# Altium schematic symbol library MultiChannelLdc.SchLib: 6 symbols
Pins are listed as number, name and electrical type; pins without a type are passive.

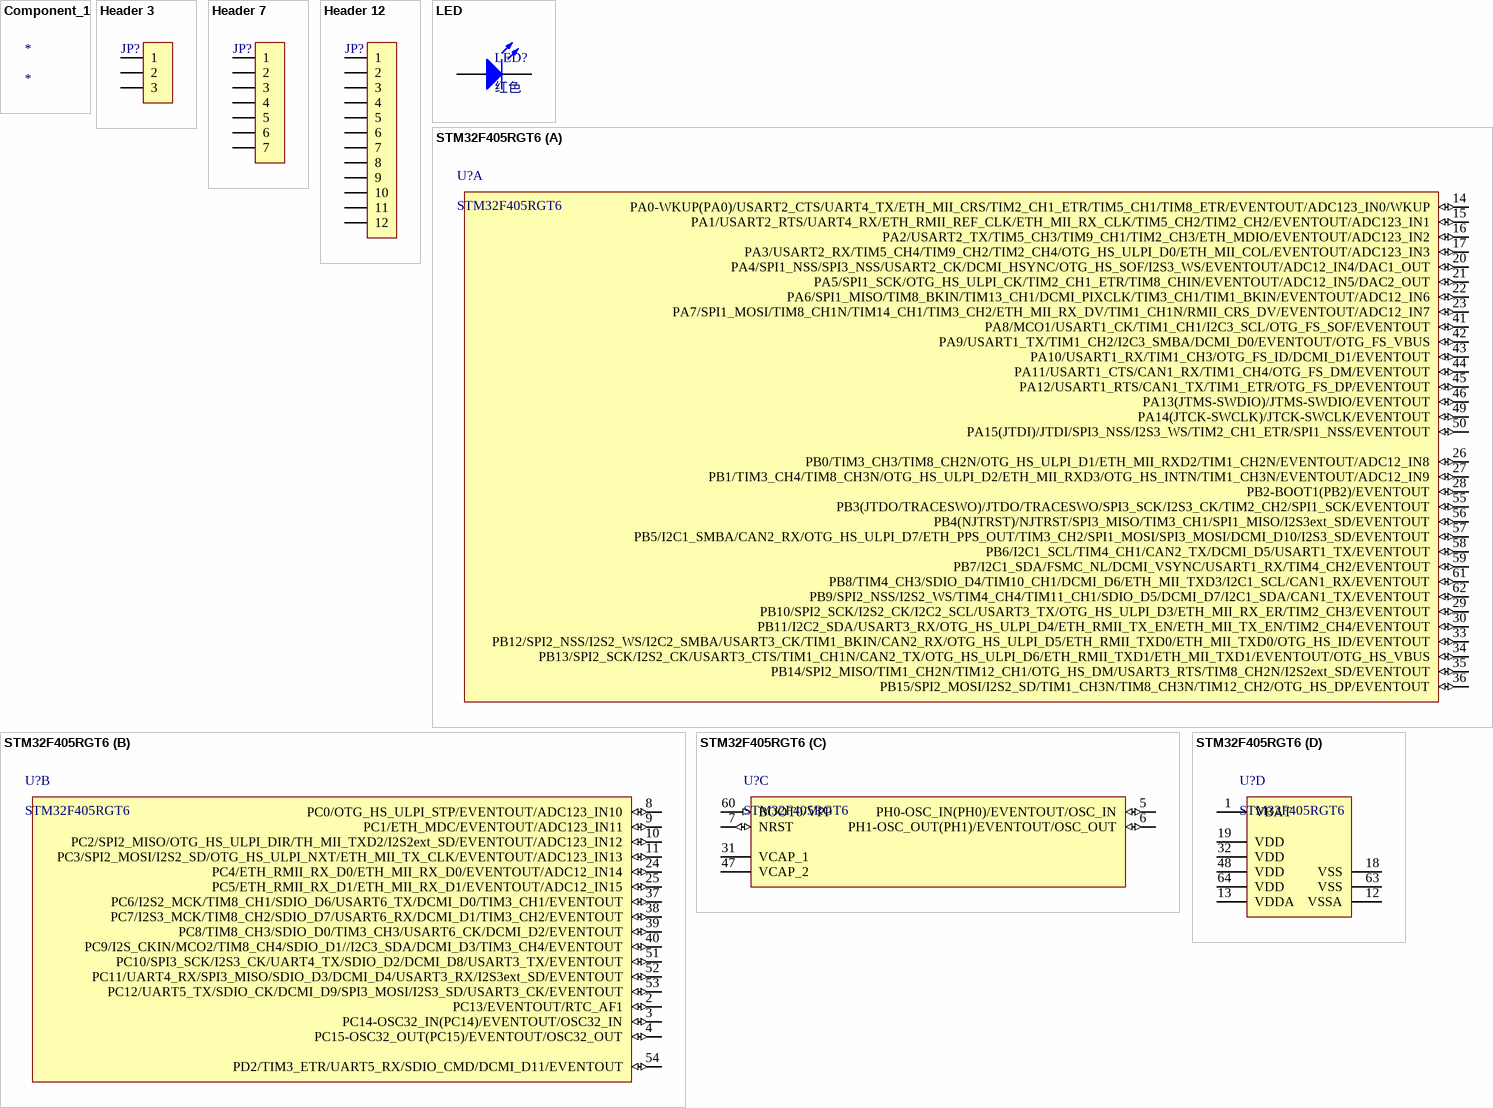
[diagram p0: symbols Component_1 to STM32F405RGT6]

## Component_1
designator *

## Header 3
designator JP?, comment HDR-1X3  (value not drawn)
3P接插件; 联系卖家，免费查找封装: 唯一出售店铺网址https://shop463601444.taobao.com; 封装库来自淘宝卖家ID：黄晶宝石: 其他店铺购入均为盗版封装库，请立即申请退款，本店现金奖励50~200元; BOM名称: 3P接插件
footprint XH2.54-W-3P (接插件，3P)
footprint XH2.54-LI-3P (接插件，3P)
footprint HDR2.54-LI-3P (排针，3脚)
footprint HDR2.54-M-LI-3P (排母，3脚)
footprint HDR2.54-WI-3P (弯脚排针，3脚)
footprint HDR2.54-WS-3P (3P卧式贴片排针2.54)
footprint HDR2.54-Y-LI-3P (圆孔排母，3脚)
footprint HDR2.54-M-WT-3P (3P卧式贴片排母2.54)
footprint KF2510-LI-3P (接插件/2A)
footprint XH2.54-WT-3P (长：12.5mm，宽：8mm，高：6.1mm)
footprint XH2.54-LS-3P (长：12.5mm，宽：6mm，高：8.3mm)
footprint KF2EDGK-2.54-LI-3P (长：9.52mm，宽：8.1mm，高：10.1mm)
footprint KF2EDGK-2.54-WI-3P (长：9.52mm，宽：10.1mm，高：8.1mm)
pins: 1, 2, 3

## Header 7
designator JP?, comment HDR-1X7  (value not drawn)
7P接插件; 联系卖家，免费查找封装: 唯一出售店铺网址https://shop463601444.taobao.com; 封装库来自淘宝卖家ID：黄晶宝石: 其他店铺购入均为盗版封装库，请立即申请退款，本店现金奖励50~200元; BOM名称: 7P接插件
footprint XH2.54-W-7P (接插件，7P)
footprint XH2.54-LI-7P (接插件，7P)
footprint HDR2.54-LI-7P (排针，8脚)
footprint HDR2.54-M-LI-7P (排母，7脚)
footprint HDR2.54-WI-7P (弯脚排针，7脚)
footprint HDR2.54-WS-7P (7P卧式贴片排针2.54)
footprint HDR2.54-Y-LI-7P (圆孔排母，7脚)
footprint HDR2.54-M-WT-7P (7P卧式贴片排母2.54)
footprint KF2510-LI-7P (接插件/2A)
footprint XH2.54-WT-7P (长：22.5mm，宽：8mm，高：6.1mm)
footprint XH2.54-LS-7P (长：22.5mm，宽：6mm，高：8.3mm)
footprint KF2EDGK-2.54-LI-7P (长：22.22mm，宽：8.1mm，高：10.1mm)
footprint KF2EDGK-2.54-WI-7P (长：22.22mm，宽：10.1mm，高：8.1mm)
pins: 1, 2, 3, 4, 5, 6, 7

## Header 12
designator JP?, comment HDR-1X12  (value not drawn)
12P接插件; 联系卖家，免费查找封装: 唯一出售店铺网址https://shop463601444.taobao.com; 封装库来自淘宝卖家ID：黄晶宝石: 其他店铺购入均为盗版封装库，请立即申请退款，本店现金奖励50~200元; BOM名称: 12P接插件
footprint XH2.54-W-12P (接插件，12P)
footprint XH2.54-LI-12P (接插件，12P)
footprint HDR2.54-LI-12P (排针，13脚)
footprint HDR2.54-M-LI-12P (排母，12脚)
footprint HDR2.54-WI-12P (弯脚排针，12脚)
footprint HDR2.54-WS-12P (12P卧式贴片排针2.54)
footprint HDR2.54-Y-LI-12P (圆孔排母，12脚)
footprint HDR2.54-M-WT-12P (12P卧式贴片排母2.54)
footprint KF2510-LI-12P (接插件/2A)
footprint XH2.54-WT-12P (长：35mm，宽：8mm，高：6.1mm)
footprint XH2.54-LS-12P (长：35mm，宽：6mm，高：8.3mm)
footprint KF2EDGK-2.54-LI-12P (长：32.38mm，宽：8.1mm，高：10.1mm)
footprint KF2EDGK-2.54-WI-12P (长：32.38mm，宽：10.1mm，高：8.1mm)
pins: 1, 2, 3, 4, 5, 6, 7, 8, 9, 10, 11, 12

## LED
designator LED?, comment 红色
贴片LED; 封装库来自淘宝卖家：黄晶宝石: 其他店铺购入均为盗版封装库，无更新权益，请立即申请退款，本店现金奖励200~1000元; BOM名称: 贴片LED
footprint LED0603_W (白色0603LED)
footprint LED0603_R (红色0603LED)
footprint LED0603_B (蓝色0603LED)
footprint LED0603_G (绿色0603LED)
footprint LED0603_Y (黄色0603LED)
footprint LED0805_G (绿色0805LED)
footprint LED0805_R (红色0805LED)
footprint LED0805_B (蓝色0805LED)
footprint LED0805_Y (黄色0805LED)
footprint LED 3528-2Pin (2脚，3528LED)
footprint LED1206_G (绿色1206LED)
footprint LED 5730-V (紫色5730LED)
footprint LED1206_Y (黄色1206LED)
footprint LED0805_W (白色0805LED)
footprint LED1206_B (蓝色1206LED)
footprint LED1206_W (白色1206LED)
footprint LED1206_R (红色1206LED)
footprint LED0402_B (蓝色0402LED)
footprint LED0402_G (绿色0402LED)
footprint LED0402_R (红色0402LED)
footprint LED0402_W (白色0402LED)
footprint LED0402_Y (黄色0402LED)
footprint LED0201 (0201 LED)
pins: 1 A, 2 K

## STM32F405RGT6
designator U?
ARM Cortex-M4 32b MCU+FPU, 210DMIP, 1024 kB Flash, 192+4 kB RAM, 51 I/Os, 64-pin LQFP, -40 to +85癈, Tray; Internal RAM: 192kB; Operating Frequency (Processor Speed): 168MHz; A/D Converter: 16x12-bit; D/A Converter: 2x12-bit; 16-bit Timers (IC/OC/PWM): 12x16-bit(24/24/30); 32-bit Timer (IC/OC/PWM): 2x32-bit (8/8/8); Other Timer Functions: 2xWDG, RTC, 24-bit down counter; Serial Interface: 3xSPI/2xI2S/2xI2C/3xUSART(IrDa, ISO7816)/3xUART/1xUSB OTG FS/HS, 2xCAN/ SDIO; 当前库版本V2023.3.12 @淘宝卖家:黄晶宝石: 最新版本发布https://item.taobao.com/item.htm?id=566775463719; DatasheetVersion: rev2, Jan-2012; PackageVersion: 2012; PackageReference: TQFP64; PackageDescription: 64-Pin Low Profile Quad Flat Package, 10x10 mm Body, 0.5 mm Pitch; ComponentLink1Description: Manufacturer URL; ComponentLink1URL: http://www.st.com/; ComponentLink2Description: STM32F405/7 Datasheet; ComponentLink2URL: http://www.st.com/internet/com/TECHNICAL_RESOURCES/TECHNICAL_LITERATURE/DATASHEET/DM00037051.pdf; ComponentLink3Description: STM32F4 Web Page; ComponentLink3URL: http://www.st.com/internet/mcu/subclass/1521.jsp
footprint TQFP64_V (Thin QFP, 64-Leads, Body 10x10mm, Pitch 0.5mm, ST Recommended)
footprint TQFP64_N (Thin QFP, 64-Leads, Body 10x10mm, Pitch 0.5mm, IPC Medium Density)
footprint TQFP64_L (Thin QFP, 64-Leads, Body 10x10mm, Pitch 0.5mm, IPC High Density)
footprint TQFP64_M (Thin QFP, 64-Leads, Body 10x10mm, Pitch 0.5mm, IPC Low Density)
part A pins: 14 PA0-WKUP(PA0)/USART2_CTS/UART4_TX/ETH_MII_CRS/TIM2_CH1_ETR/TIM5_CH1/TIM8_ETR/EVENTOUT/ADC123_IN0/WKUP (io), 15 PA1/USART2_RTS/UART4_RX/ETH_RMII_REF_CLK/ETH_MII_RX_CLK/TIM5_CH2/TIM2_CH2/EVENTOUT/ADC123_IN1 (io), 16 PA2/USART2_TX/TIM5_CH3/TIM9_CH1/TIM2_CH3/ETH_MDIO/EVENTOUT/ADC123_IN2 (io), 17 PA3/USART2_RX/TIM5_CH4/TIM9_CH2/TIM2_CH4/OTG_HS_ULPI_D0/ETH_MII_COL/EVENTOUT/ADC123_IN3 (io), 20 PA4/SPI1_NSS/SPI3_NSS/USART2_CK/DCMI_HSYNC/OTG_HS_SOF/I2S3_WS/EVENTOUT/ADC12_IN4/DAC1_OUT (io), 21 PA5/SPI1_SCK/OTG_HS_ULPI_CK/TIM2_CH1_ETR/TIM8_CHIN/EVENTOUT/ADC12_IN5/DAC2_OUT (io), 22 PA6/SPI1_MISO/TIM8_BKIN/TIM13_CH1/DCMI_PIXCLK/TIM3_CH1/TIM1_BKIN/EVENTOUT/ADC12_IN6 (io), 23 PA7/SPI1_MOSI/TIM8_CH1N/TIM14_CH1/TIM3_CH2/ETH_MII_RX_DV/TIM1_CH1N/RMII_CRS_DV/EVENTOUT/ADC12_IN7 (io), 26 PB0/TIM3_CH3/TIM8_CH2N/OTG_HS_ULPI_D1/ETH_MII_RXD2/TIM1_CH2N/EVENTOUT/ADC12_IN8 (io), 27 PB1/TIM3_CH4/TIM8_CH3N/OTG_HS_ULPI_D2/ETH_MII_RXD3/OTG_HS_INTN/TIM1_CH3N/EVENTOUT/ADC12_IN9 (io), 28 PB2-BOOT1(PB2)/EVENTOUT (io), 29 PB10/SPI2_SCK/I2S2_CK/I2C2_SCL/USART3_TX/OTG_HS_ULPI_D3/ETH_MII_RX_ER/TIM2_CH3/EVENTOUT (io), 30 PB11/I2C2_SDA/USART3_RX/OTG_HS_ULPI_D4/ETH_RMII_TX_EN/ETH_MII_TX_EN/TIM2_CH4/EVENTOUT (io), 33 PB12/SPI2_NSS/I2S2_WS/I2C2_SMBA/USART3_CK/TIM1_BKIN/CAN2_RX/OTG_HS_ULPI_D5/ETH_RMII_TXD0/ETH_MII_TXD0/OTG_HS_ID/EVENTOUT (io), 34 PB13/SPI2_SCK/I2S2_CK/USART3_CTS/TIM1_CH1N/CAN2_TX/OTG_HS_ULPI_D6/ETH_RMII_TXD1/ETH_MII_TXD1/EVENTOUT/OTG_HS_VBUS (io), 35 PB14/SPI2_MISO/TIM1_CH2N/TIM12_CH1/OTG_HS_DM/USART3_RTS/TIM8_CH2N/I2S2ext_SD/EVENTOUT (io), 36 PB15/SPI2_MOSI/I2S2_SD/TIM1_CH3N/TIM8_CH3N/TIM12_CH2/OTG_HS_DP/EVENTOUT (io), 41 PA8/MCO1/USART1_CK/TIM1_CH1/I2C3_SCL/OTG_FS_SOF/EVENTOUT (io), 42 PA9/USART1_TX/TIM1_CH2/I2C3_SMBA/DCMI_D0/EVENTOUT/OTG_FS_VBUS (io), 43 PA10/USART1_RX/TIM1_CH3/OTG_FS_ID/DCMI_D1/EVENTOUT (io), 44 PA11/USART1_CTS/CAN1_RX/TIM1_CH4/OTG_FS_DM/EVENTOUT (io), 45 PA12/USART1_RTS/CAN1_TX/TIM1_ETR/OTG_FS_DP/EVENTOUT (io), 46 PA13(JTMS-SWDIO)/JTMS-SWDIO/EVENTOUT (io), 49 PA14(JTCK-SWCLK)/JTCK-SWCLK/EVENTOUT (io), 50 PA15(JTDI)/JTDI/SPI3_NSS/I2S3_WS/TIM2_CH1_ETR/SPI1_NSS/EVENTOUT (io), 55 PB3(JTDO/TRACESWO)/JTDO/TRACESWO/SPI3_SCK/I2S3_CK/TIM2_CH2/SPI1_SCK/EVENTOUT (io), 56 PB4(NJTRST)/NJTRST/SPI3_MISO/TIM3_CH1/SPI1_MISO/I2S3ext_SD/EVENTOUT (io), 57 PB5/I2C1_SMBA/CAN2_RX/OTG_HS_ULPI_D7/ETH_PPS_OUT/TIM3_CH2/SPI1_MOSI/SPI3_MOSI/DCMI_D10/I2S3_SD/EVENTOUT (io), 58 PB6/I2C1_SCL/TIM4_CH1/CAN2_TX/DCMI_D5/USART1_TX/EVENTOUT (io), 59 PB7/I2C1_SDA/FSMC_NL/DCMI_VSYNC/USART1_RX/TIM4_CH2/EVENTOUT (io), 61 PB8/TIM4_CH3/SDIO_D4/TIM10_CH1/DCMI_D6/ETH_MII_TXD3/I2C1_SCL/CAN1_RX/EVENTOUT (io), 62 PB9/SPI2_NSS/I2S2_WS/TIM4_CH4/TIM11_CH1/SDIO_D5/DCMI_D7/I2C1_SDA/CAN1_TX/EVENTOUT (io)
part B pins: 2 PC13/EVENTOUT/RTC_AF1 (io), 3 PC14-OSC32_IN(PC14)/EVENTOUT/OSC32_IN (io), 4 PC15-OSC32_OUT(PC15)/EVENTOUT/OSC32_OUT (io), 8 PC0/OTG_HS_ULPI_STP/EVENTOUT/ADC123_IN10 (io), 9 PC1/ETH_MDC/EVENTOUT/ADC123_IN11 (io), 10 PC2/SPI2_MISO/OTG_HS_ULPI_DIR/TH_MII_TXD2/I2S2ext_SD/EVENTOUT/ADC123_IN12 (io), 11 PC3/SPI2_MOSI/I2S2_SD/OTG_HS_ULPI_NXT/ETH_MII_TX_CLK/EVENTOUT/ADC123_IN13 (io), 24 PC4/ETH_RMII_RX_D0/ETH_MII_RX_D0/EVENTOUT/ADC12_IN14 (io), 25 PC5/ETH_RMII_RX_D1/ETH_MII_RX_D1/EVENTOUT/ADC12_IN15 (io), 37 PC6/I2S2_MCK/TIM8_CH1/SDIO_D6/USART6_TX/DCMI_D0/TIM3_CH1/EVENTOUT (io), 38 PC7/I2S3_MCK/TIM8_CH2/SDIO_D7/USART6_RX/DCMI_D1/TIM3_CH2/EVENTOUT (io), 39 PC8/TIM8_CH3/SDIO_D0/TIM3_CH3/USART6_CK/DCMI_D2/EVENTOUT (io), 40 PC9/I2S_CKIN/MCO2/TIM8_CH4/SDIO_D1//I2C3_SDA/DCMI_D3/TIM3_CH4/EVENTOUT (io), 51 PC10/SPI3_SCK/I2S3_CK/UART4_TX/SDIO_D2/DCMI_D8/USART3_TX/EVENTOUT (io), 52 PC11/UART4_RX/SPI3_MISO/SDIO_D3/DCMI_D4/USART3_RX/I2S3ext_SD/EVENTOUT (io), 53 PC12/UART5_TX/SDIO_CK/DCMI_D9/SPI3_MOSI/I2S3_SD/USART3_CK/EVENTOUT (io), 54 PD2/TIM3_ETR/UART5_RX/SDIO_CMD/DCMI_D11/EVENTOUT (io)
part C pins: 5 PH0-OSC_IN(PH0)/EVENTOUT/OSC_IN (io), 6 PH1-OSC_OUT(PH1)/EVENTOUT/OSC_OUT (io), 7 NRST (io), 31 VCAP_1 (power), 47 VCAP_2 (power), 60 BOOT0/VPP (in)
part D pins: 1 VBAT (power), 12 VSSA (power), 13 VDDA (power), 18 VSS (power), 19 VDD (power), 32 VDD (power), 48 VDD (power), 63 VSS (power), 64 VDD (power)